# EAGLE library part MEM2080-00-128-00-A (library SamacSys_Parts)
Memory Card Connectors Micro SD, Push Push, SMT, Card Entry Normal, 1.28 mm profile Source: Datasheet <https://gct.co/files/drawings/mem2080.pdf?v=a9dd5643-7d1c-4e6b-bf46-1b82bcb8595f>
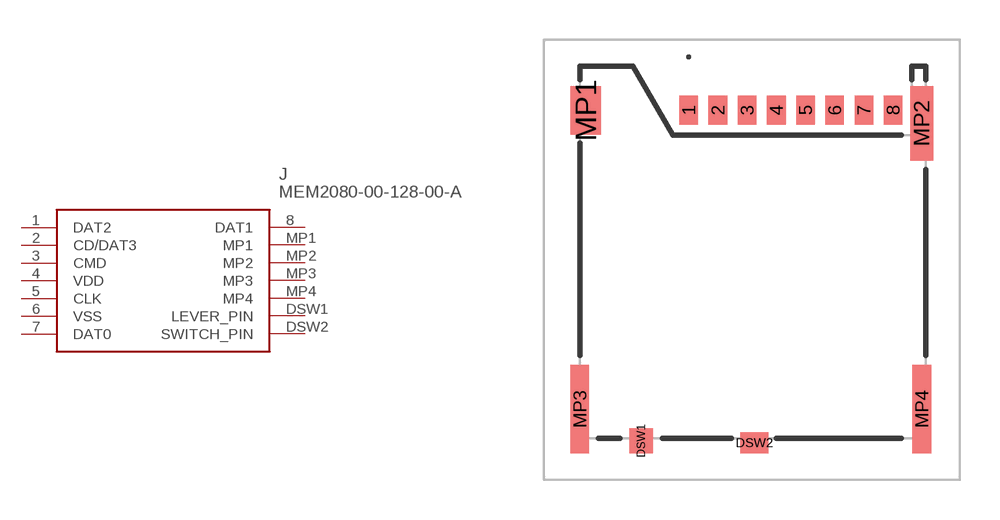
[diagram p1: symbol with the pads of MEM20800012800A; footprint MEM20800012800A]

Designator prefix J

## MEM2080-00-128-00-A (Description: Memory Card Connectors Micro SD, Push Push, SMT, Card Entry Normal, 1.28 mm profile; Height: 1.48mm; Manufacturer_Name: GCT (GLOBAL CONNECTOR TECHNOLOGY); Manufacturer_Part_Number: MEM2080-00-128-00-A; Mouser_Part_Number: 640-MEM2080-0012800A; Mouser_Price-Stock: https://www.mouser.co.uk/ProductDetail/GCT/MEM2080-00-128-00-A?qs=vvQtp7zwQdPJXzpf1SnYug%3D%3D)  [MEM20800012800A]
1  DAT2
2  CD/DAT3
3  CMD
4  VDD
5  CLK
6  VSS
7  DAT0
8  DAT1
DSW1  LEVER_PIN
DSW2  SWITCH_PIN
MP1  MP1
MP2  MP2
MP3  MP3
MP4  MP4

## Footprint MEM20800012800A (pad centres in mm)
MEM2080-00-128-00-A-6
smd 0.7 x 1.1: 1 -2.38,5.64; 2 -1.28,5.64; 3 -0.18,5.64; 4 0.92,5.64; 5 2.02,5.64; 6 3.12,5.64; 7 4.22,5.64; 8 5.32,5.64
smd 0.9 x 0.93: DSW1 -4.17,-6.825
smd 1.05 x 0.78: DSW2 0.095,-6.9
smd 1.14 x 1.83: MP1 -6.26,5.625
smd 0.86 x 2.8: MP2 6.4,5.14
smd 0.7 x 3.33: MP3 -6.48,-5.625; MP4 6.4,-5.625